# Altium schematic symbol library PlumPot_Library.SchLib: 1 symbol
Pins are listed as number, name and electrical type; pins without a type are passive.

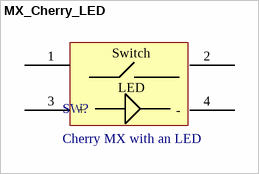
[diagram p0: symbol MX_Cherry_LED]

## MX_Cherry_LED
designator SW?, comment Cherry MX with an LED
footprint MX_Cherry_LED (Cherry Key Pad with LED)
pins: 1, 2, 3 +, 4 -
text: Switch; LED